# EAGLE library part ULN2003LVPWR (library Skippy-IC)
7-Channel Relay and Inductive Load Sink Driver,TSSOP-16
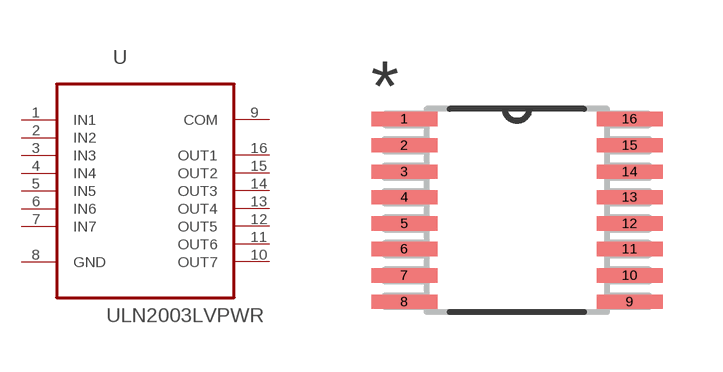
[diagram p3: symbol with the pads of SOP65P640X120-16N; footprint SOP65P640X120-16N]

Designator prefix U

## ULN2003LVPWR (OC_FARNELL: 2296010)  [SOP65P640X120-16N]
1  IN1  in
2  IN2  in
3  IN3  in
4  IN4  in
5  IN5  in
6  IN6  in
7  IN7  in
8  GND  pas
9  COM  out
10  OUT7  out
11  OUT6  out
12  OUT5  out
13  OUT4  out
14  OUT3  out
15  OUT2  out
16  OUT1  out

## Footprint SOP65P640X120-16N (pad centres in mm)
smd 1.651 x 0.356: 1 -2.819,2.286; 2 -2.819,1.626; 3 -2.819,0.965; 4 -2.819,0.33; 5 -2.819,-0.33; 6 -2.819,-0.965; 7 -2.819,-1.626; 8 -2.819,-2.286; 9 2.819,-2.286; 10 2.819,-1.626; 11 2.819,-0.965; 12 2.819,-0.33; 13 2.819,0.33; 14 2.819,0.965; 15 2.819,1.626; 16 2.819,2.286